# EAGLE library part ADG719 (library kotuku)
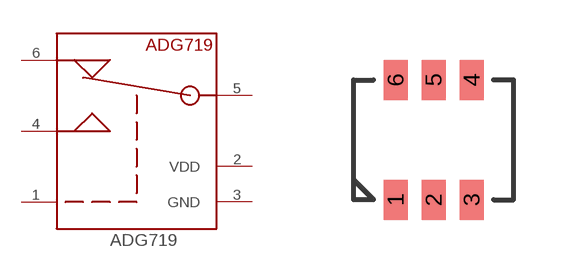
[diagram p19: symbol with the pads of SOT-23(6); footprint SOT-23(6)]

Designator prefix -

## ADG719  [SOT-23(6)]
1  IN
2  VDD
3  GND
4  S1
5  D
6  S2

## Footprint SOT-23(6) (pad centres in mm)
smd 0.6 x 1: 1 -0.95,-1.5; 2 0,-1.5; 3 0.95,-1.5; 4 0.95,1.5; 5 0,1.5; 6 -0.95,1.5